# Altium schematic symbol library CAS_SMPS.SchLib: 6 symbols
Pins are listed as number, name and electrical type; pins without a type are passive.

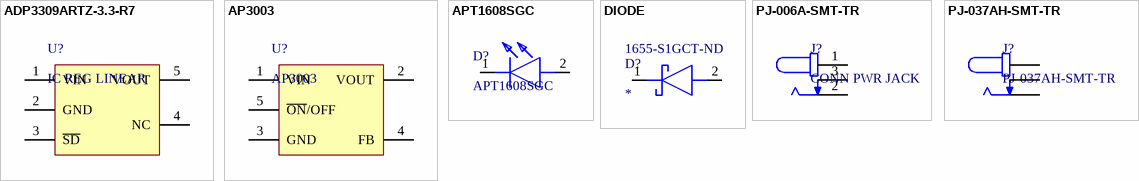
[diagram p0: symbols ADP3309ARTZ-3.3-R7 to PJ-037AH-SMT-TR]

## ADP3309ARTZ-3.3-R7
designator U?, comment IC REG LINEAR
LDO Regulator Pos 3.3V 0.1A 5-Pin SOT-23 T/R / IC REG LDO 3.3V 0.1A SOT23-5; Manufacturer: Analog Devices; Manufacturer Part Number: ADP3309ARTZ-3.3-R7; Number of Outputs: 1; Max Input Voltage: 12V; Min Input Voltage: 2.8V; Polarity: Positive; Accuracy: 1.2%; Output Type: Fixed; Output Current: 100mA; Dropout Voltage: 120mV; Min Output Voltage: 2.5V; Quiescent Current: 1uA; Nominal Supply Current: 2mA; Power Supply Rejection Ratio (PSRR): 60dB; Max Output Voltage: 3.6V; Supplier 1: Digi-Key; RoHS: Yes; Category: Voltage Regulators - Linear; Stock 1: 2658; Pricing 1: 1=2,92, 10=2,624, 25=2,4804, 100=2,1497, 250=2,03944, 500=1,82998, 1000=1,56 (USD); Case/Package: SOT-23-5; Number of Pins: 5; Min Operating Temperature: -20°C; Max Operating Temperature: 85°C; Output Voltage: 3.3V; Nominal Output Voltage: 3.3V; Package Quantity: 3000; Max Output Current: 100mA; Packaging: Tape and Reel; Number of Regulators: 1; Output Voltage Accuracy: 1.2%; Operating Supply Current: 2mA; Max Supply Current: 2mA; Series: anyCAP®; Length: 2.9mm; Width: 1.6mm; Height: 1.3mm; Radiation Hardening: No; Reach SVHC Compliant: No; Lead Free: Contains Lead; RoHS Compliant: Yes; ComponentLink1URL: https://datasheet.ciiva.com/2041/adp3309-2041025.pdf?src-supplier=Digi-Key; ComponentLink1Description: https://datasheet.ciiva.com/2041/adp3309-2041025.pdf?src-supplier=Digi-Key; ComponentLink2URL: https://datasheet.ciiva.com/28435/1694316-28435698.pdf?src-supplier=Element14; ComponentLink2Description: https://datasheet.ciiva.com/28435/1694316-28435698.pdf?src-supplier=Element14; ComponentLink3URL: https://datasheet.ciiva.com/2041/adp3309-2041026.pdf?src-supplier=Digi-Key; ComponentLink3Description: https://datasheet.ciiva.com/2041/adp3309-2041026.pdf?src-supplier=Digi-Key; ComponentLink4URL: https://datasheet.ciiva.com/2041/adp3309-2041027.pdf?src-supplier=Digi-Key; ComponentLink4Description: https://datasheet.ciiva.com/2041/adp3309-2041027.pdf?src-supplier=Digi-Key; ComponentLink5URL: https://datasheet.ciiva.com/8241/adp3309-8241749.pdf?src-supplier=Avnet; ComponentLink5Description: https://datasheet.ciiva.com/8241/adp3309-8241749.pdf?src-supplier=Avnet; ComponentLink6URL: https://datasheet.ciiva.com/3224/adp3309-3224702.pdf?src-supplier=Avnet; ComponentLink6Description: https://datasheet.ciiva.com/3224/adp3309-3224702.pdf?src-supplier=Avnet; Supplier Part Number 1: ADP3309ARTZ-3.3-R7CT-ND
footprint SOT-23-5
pins: 1 VIN, 2 GND, 3 ~{SD}, 4 NC, 5 VOUT

## AP3003
designator U?
IC REG BUCK ADJ 3A TO263-5
footprint TO-263-5
pins: 1 VIN, 2 VOUT, 3 GND, 4 FB, 5 ~{ON}/OFF

## APT1608SGC
designator D?
LED GREEN CLEAR 0603 SMD; Manufacturer: Kingbright; Forward Voltage: 2.2V; Viewing Angle: 120°; Forward Current: 20mA; Luminous Intensity: 15mcd; Lens Style: Clear,Flat; Dominant Wavelength: 568nm; Number of LEDs: 1; Supplier 1: Digi-Key; Manufacturer Part Number: APT1608SGC; RoHS: Yes; Category: LEDs; Stock 1: 173873; Pricing 1: 1=0,3, 10=0,235, 100=0,1054, 500=0,09518, 1000=0,07818 (USD); Mount: Surface Mount; Case/Package: 0603; Number of Pins: 2; Color: Green; Case Code (Metric): 1608; Case Code (Imperial): 0603; Lens Color: Clear; Min Operating Temperature: -40°C; Max Operating Temperature: 85°C; Package Quantity: 2000; Illumination Color: Green; Packaging: Tape and Reel; Test Current: 20mA; Wavelength: 568nm; Series: APT; Length: 1.6mm; Width: 0.8mm; Height: 0.75mm; Lead Free: Lead Free; RoHS Compliant: Yes; ComponentLink1URL: https://datasheet.ciiva.com/12400/apt1608sgc-32861-12400932.pdf?src-supplier=Mouser; ComponentLink1Description: https://datasheet.ciiva.com/12400/apt1608sgc-32861-12400932.pdf?src-supplier=Mouser; ComponentLink2URL: https://datasheet.ciiva.com/2113/apt1608sgc-2113808.pdf?src-supplier=Digi-Key; ComponentLink2Description: https://datasheet.ciiva.com/2113/apt1608sgc-2113808.pdf?src-supplier=Digi-Key; ComponentLink3URL: https://datasheet.ciiva.com/14603/70062839-14603927.pdf?src-supplier=Allied+Electronics; ComponentLink3Description: https://datasheet.ciiva.com/14603/70062839-14603927.pdf?src-supplier=Allied+Electronics; Supplier Part Number 1: 754-1121-1-ND
footprint LED
pins: 1 K, 2 A

## DIODE
designator D?  Supplier Part Number 1: 1655-S1GCT-ND
Manufacturer: Sangdest Microelectronics; Manufacturer Part Number: S1G; Supplier 1: Digi-Key; RoHS: No; Stock 1: 552177; Pricing 1: 1=0,13, 10=0,12, 100=0,0655, 500=0,04034, 1000=0,0275, 2000=0,02338 (USD)
footprint DIODE2
pins: 1 K, 2 A

## PJ-006A-SMT-TR
designator J?, comment CONN PWR JACK
Power Barrel Connector Jack 2.00mm ID (0.079; Manufacturer: CUI; Manufacturer Part Number: PJ-006A-SMT-TR; Gender: Male; Shielding: Unshielded; Current Rating: 4A; Connector Type: Jack,Power; Voltage Rating: 18V; Insulation Resistance: 100MR; Supplier 1: Arrow Electronics; RoHS: Yes; Category: Uncategorized; Mount: Surface Mount; Case/Package: SMD/SMT; Color: Black; Contact Material: Copper; Contact Plating: Nickel; Housing Color: Black; Housing Material: Thermoplastic; Min Operating Temperature: -20°C; Max Operating Temperature: 85°C; Package Quantity: 250; Termination: Solder; Contact Gender: Male; Series: -; Lead Free: Lead Free; Flammability Rating: UL94 V-0; RoHS Compliant: Yes; ComponentLink1URL: https://datasheet.ciiva.com/16478/pj-006a-smt-16478075.pdf?src-supplier=Future+Electronics; ComponentLink1Description: https://datasheet.ciiva.com/16478/pj-006a-smt-16478075.pdf?src-supplier=Future+Electronics; Supplier Part Number 1: PJ-006A-SMT-TR
footprint JACK2
pins: 1, 2, 3

## PJ-037AH-SMT-TR
designator J?
2.0 x 6.3 mm, 5.0 A, Horizontal, Surface Mount (SMT), Dc Power Jack Connector; Manufacturer: CUI; Number of Conductors: 2; Gender: Male; Shielding: Unshielded; Current Rating: 5A; Voltage Rating: 24V; Insulation Resistance: 100MR; Supplier 1: Digi-Key; Manufacturer Part Number: PJ-037AH-SMT-TR; RoHS: Yes; Category: Uncategorized; Stock 1: 44; Pricing 1: 1=1,500000, 10=1,304000, 25=1,248800, 50=1,221000 (USD); Mount: Surface Mount,Through Hole; Case/Package: SMD/SMT; Color: Black; Contact Material: Copper; Contact Plating: Nickel; Housing Color: Black; Housing Material: Thermoplastic; Min Operating Temperature: -25°C; Max Operating Temperature: 85°C; Orientation: Horizontal; Termination: Solder; Connector Type: Jack; Package Quantity: 200; Contact Gender: Male; Packaging: Tape and Reel; Flammability Rating: UL94 V-0; ComponentLink1URL: http://www.mouser.com/ds/2/670/pj-037ah-smt-516065.pdf?src-supplier=Mouser; ComponentLink1Description: http://www.mouser.com/ds/2/670/pj-037ah-smt-516065.pdf?src-supplier=Mouser; ComponentLink2URL: https://www.cui.com/product/resource/digikeypdf/pj-037ah-smt-tr.pdf?src-supplier=Digi-Key; ComponentLink2Description: https://www.cui.com/product/resource/digikeypdf/pj-037ah-smt-tr.pdf?src-supplier=Digi-Key; ComponentLink3URL: http://www.cui.com/product/resource/digikeypdf/pj-037ah-smt.pdf?src-supplier=Digi-Key; ComponentLink3Description: http://www.cui.com/product/resource/digikeypdf/pj-037ah-smt.pdf?src-supplier=Digi-Key; Supplier Part Number 1: CP-037AHPJCT-ND
footprint JACK1
pins: 1A 1, 1B 1, 2A 2, 2B 2, 3A 3, 3B 3